# EAGLE library part LTC2955-1_ON/OFF_CTLR (library ZHAW_BA)
On/OFF Controller, PUSHBUTT TSOT23-8 DigiKey: Pt.Nr: LTC2955CTS8-1#TRMPBFCT-ND https://www.digikey.ch/products/de?keywords=LTC2955CTS8-1%23TRMPBFCT-ND
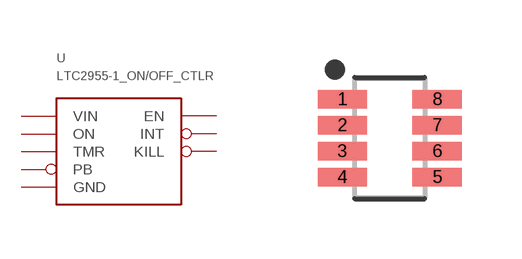
[diagram p17: symbol with the pads of SOT23-8; footprint SOT23-8]

Designator prefix U

## LTC2955-1_ON/OFF_CTLR  [SOT23-8]
1  ON
2  KILL
3  TMR
4  GND
5  PB
6  VIN
7  EN
8  INT

## Footprint SOT23-8 (pad centres in mm)
8-SOT23, 0.65 mm pitch, 2.80 mm span, 2.90 X 1.63 X 1.10 mm body 8-pin SOT23 package with 0.65 mm pitch, 2.80 mm span with body size 2.90 X 1.63 X 1.10 mm
smd 1.237 x 0.459: 1 -1.187,0.975; 2 -1.187,0.325; 3 -1.187,-0.325; 4 -1.187,-0.975; 5 1.187,-0.975; 6 1.187,-0.325; 7 1.187,0.325; 8 1.187,0.975